# Altium footprint library QFN50P600X600X100-37T370.PcbLib: 1 footprints
Each footprint in its own frame and in the unit in brackets; x right, y up, seen from the top. Pads: shape width x height; smd on the part's side, far side on the other; paste and mask are expansions set on the pad; w line width, h text height; cw(c..) or ccw(c..) is an arc to the next point about the centre after c.
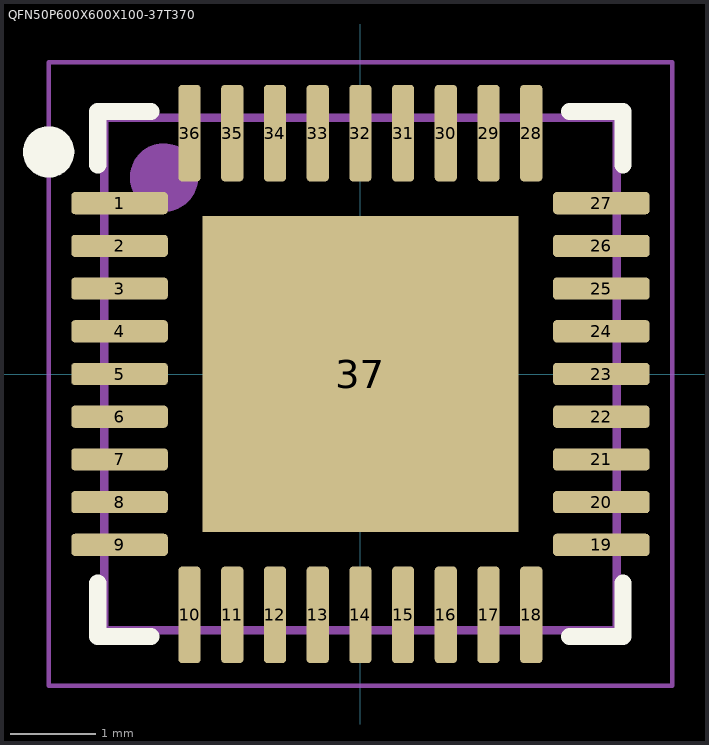
[diagram p0: the footprint, top view; thin cyan lines are the x and y axes]

## QFN50P600X600X100-37T370 [mm] "Quad Flat No-Lead (QFN with Tab), 0.50 mm pitch; square, 9 pin X 9 pin, 6.00 mm L X 6.00 mm W X 1.00 mm H body"
height 1
pads (37):
  rrect33% 1.13x0.26 smd: 1(-2.82,2) 2(-2.82,1.5) 3(-2.82,1) 4(-2.82,0.5) 5(-2.82,0) 6(-2.82,-0.5) 7(-2.82,-1) 8(-2.82,-1.5) 9(-2.82,-2) 19(2.82,-2) 20(2.82,-1.5) 21(2.82,-1) 22(2.82,-0.5) 23(2.82,0) 24(2.82,0.5) 25(2.82,1) 26(2.82,1.5) 27(2.82,2)
  rrect33% 0.26x1.13 smd: 10(-2,-2.82) 11(-1.5,-2.82) 12(-1,-2.82) 13(-0.5,-2.82) 14(0,-2.82) 15(0.5,-2.82) 16(1,-2.82) 17(1.5,-2.82) 18(2,-2.82) 28(2,2.82) 29(1.5,2.82) 30(1,2.82) 31(0.5,2.82) 32(0,2.82) 33(-0.5,2.82) 34(-1,2.82) 35(-1.5,2.82) 36(-2,2.82)
  rect 3.7x3.7 smd paste-3.7 mask+0: 37(0,0)
Top Overlay:
  circle w0.3: c-3.65,2.6 r0.15
  lines w0.2: -3.075,-2.45 -3.075,-3.075 -2.45,-3.075 ; -3.075,2.45 -3.075,3.075 -2.45,3.075 ; 2.45,-3.075 3.075,-3.075 3.075,-2.45 ; 2.45,3.075 3.075,3.075 3.075,2.45
Top Paste:
  region: -1.49,-1.49 -1.49,-0.18 -0.18,-0.18 -0.18,-1.49
  region: 0.18,-1.49 0.18,-0.18 1.49,-0.18 1.49,-1.49
  region: -1.49,0.18 -1.49,1.49 -0.18,1.49 -0.18,0.18
  region: 0.18,0.18 0.18,1.49 1.49,1.49 1.49,0.18
Top Assembly:
  circle w0.4: c-2.3,2.3 r0.2
  lines w0.1: -3,-3 -3,3 3,3 3,-3 -3,-3
Top Courtyard:
  lines w0.05: -3.65,-3.65 -3.65,3.65 3.65,3.65 3.65,-3.65 -3.65,-3.65
Top Designator:
  text ".Designator" at -0.5,-0.5 h1
Top Component Center:
  lines w0.05: -0.5,0 0.5,0 ; 0,-0.5 0,0.5
3D body "QFN50P600X600X100-37T370X370.STEP": height 1, standoff 0, extent -3.05,-3.05 3.05,3.05